# Altium integrated library TI Power Management Linear Regulator Single Channel LDO (0-350mA).IntLib: 1648 symbols (part 37 of 66)
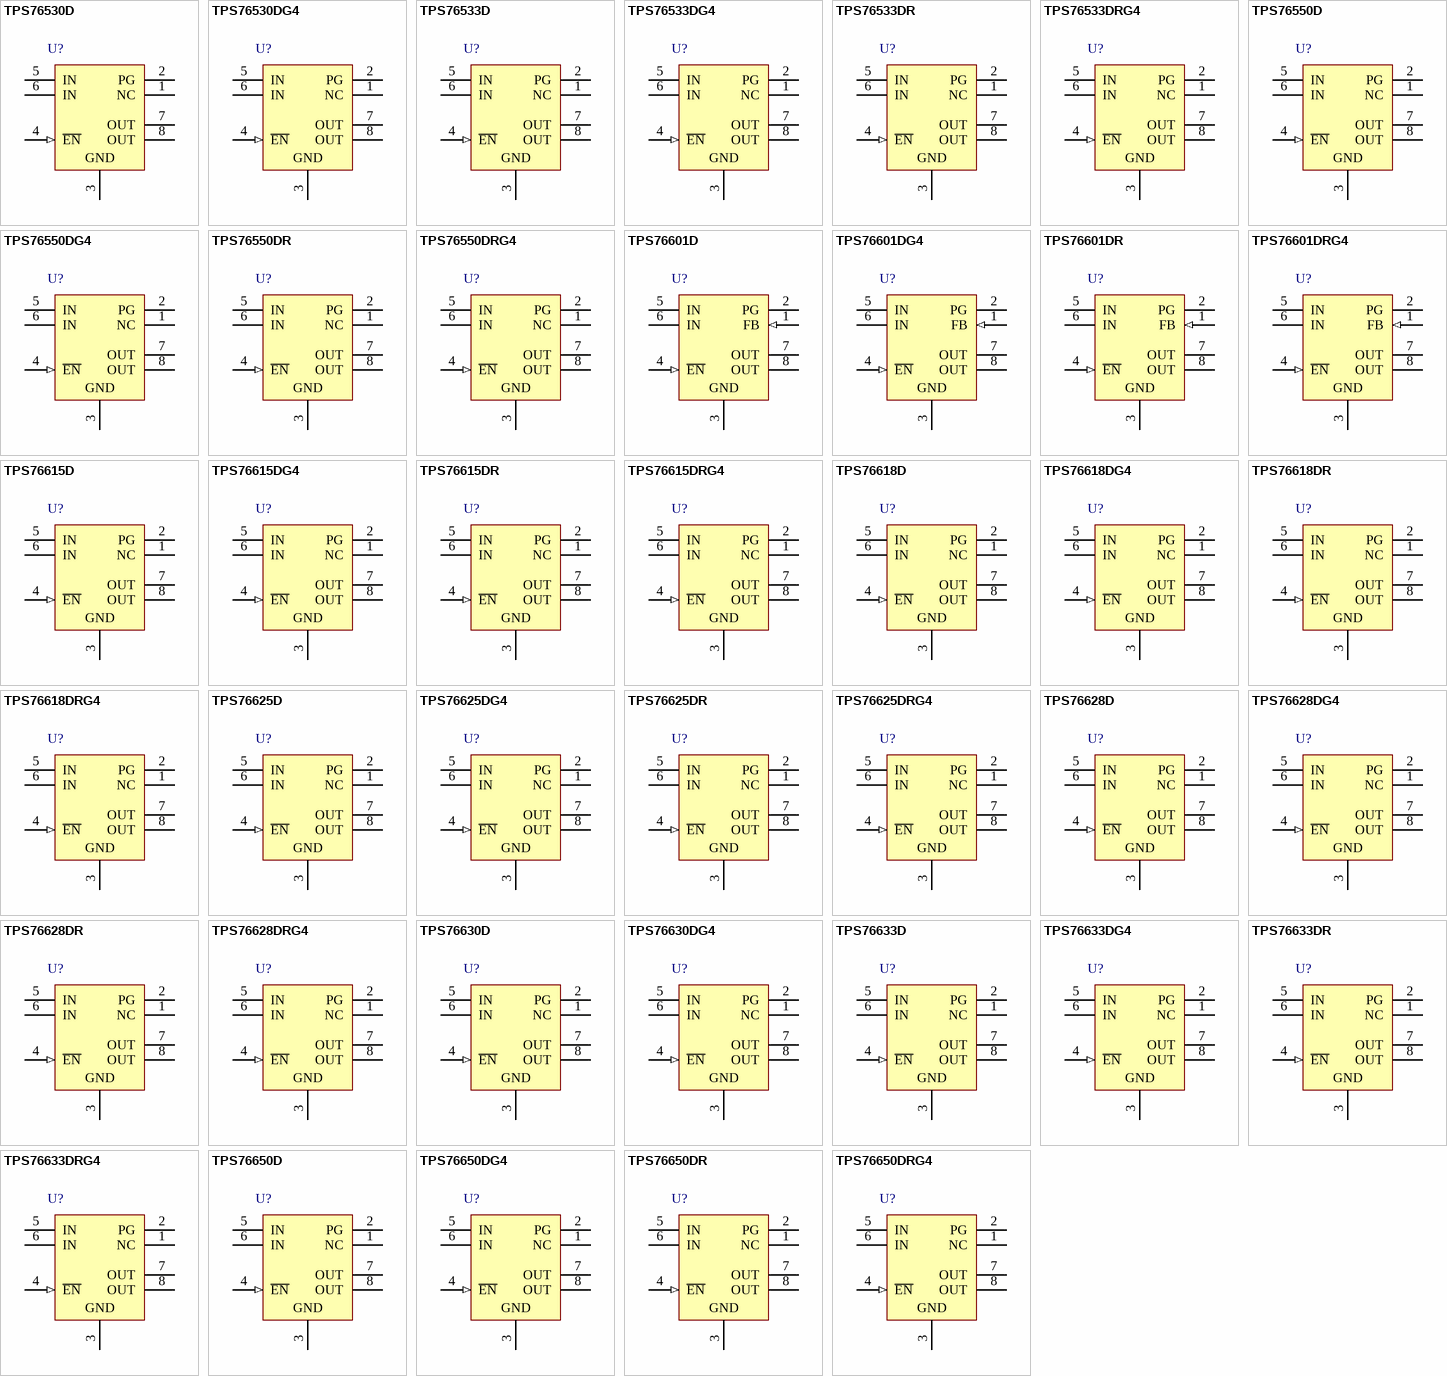
[diagram p78: symbols TPS76530D to TPS76650DRG4]

## TPS76615D
designator U?
Single Output LDO, 100 mA, Fixed 1.5 V Output, 2.7 to 10 V Input, with Low IQ, 8-pin SOIC (D), -40 to 125 degC, Green (RoHS & no Sb/Br); Manufacturer: Texas Instruments; PartNumber: TPS76615D; Fixed Output Options(V): 1.5; Iout(Max)(A): 0.25; Iq(Typ)(mA): 0.03; Power Good: TRUE; Rating: Catalog; SubFamily: Single Channel LDO; Vdo(Typ)(mV): 140; Vin(Max)(V): 10; Vin(Min)(V): 2.7; DatasheetVersion: SLVS237C; PackageVersion: 4040047-3/M; PackageReference: D8; PackageDescription: 8-Pin Plastic Small Outline, Body 4.9 x 3.9 mm, Pitch 1.27 mm; Supplier 1: Digi-Key; Supplier Part Number 1: 296-2723-5-ND; Supplier 2: Mouser; Supplier Part Number 2: 595-TPS76615D; Eco-Plan: Green (RoHS & no Sb/Br); Vout Adj(Max)(V): 1.5; Vout Adj(Min)(V): 1.5; Mounting Technology: Surface Mount; Code_JEDEC: MS-012; ComponentLink1Description: Manufacturer URL; ComponentLink1URL: http://www.ti.com/; ComponentLink2Description: Datasheet; ComponentLink2URL: http://www.ti.com/general/docs/lit/getliterature.tsp?genericPartNumber=TPS76615&fileType=pdf; ComponentLink3Description: Package Specification; ComponentLink3URL: http://www.ti.com/litv/pdf/msoi002j
footprint TI-D8_N (SOIC, 8-Leads, Body 4.9x3.9mm, Pitch 1.27mm, IPC Medium Density)
footprint TI-D8_L (SOIC, 8-Leads, Body 4.9x3.9mm, Pitch 1.27mm, IPC High Density)
footprint TI-D8_M (SOIC, 8-Leads, Body 4.9x3.9mm, Pitch 1.27mm, IPC Low Density)
pins: 1 NC "No connect", 2 PG (hiz) "PG output", 3 GND (power) "Regulator ground", 4 ~{EN} (in) "Enable input", 5 IN (power) "Input voltage", 6 IN (power) "Input voltage", 7 OUT (power) "Regulated output voltage", 8 OUT (power) "Regulated output voltage"

## TPS76615DG4
designator U?
Single Output LDO, 100 mA, Fixed 1.5 V Output, 2.7 to 10 V Input, with Low IQ, 8-pin SOIC (D), -40 to 125 degC, Green (RoHS & no Sb/Br); Manufacturer: Texas Instruments; PartNumber: TPS76615DG4; Fixed Output Options(V): 1.5; Iout(Max)(A): 0.25; Iq(Typ)(mA): 0.03; Power Good: TRUE; Rating: Catalog; SubFamily: Single Channel LDO; Vdo(Typ)(mV): 140; Vin(Max)(V): 10; Vin(Min)(V): 2.7; DatasheetVersion: SLVS237C; PackageVersion: 4040047-3/M; PackageReference: D8; PackageDescription: 8-Pin Plastic Small Outline, Body 4.9 x 3.9 mm, Pitch 1.27 mm; Supplier 1: Digi-Key; Supplier Part Number 1: TPS76615DG4-ND; Supplier 2: Mouser; Supplier Part Number 2: 595-TPS76615DG4; Eco-Plan: Green (RoHS & no Sb/Br); Vout Adj(Max)(V): 1.5; Vout Adj(Min)(V): 1.5; Mounting Technology: Surface Mount; Code_JEDEC: MS-012; ComponentLink1Description: Manufacturer URL; ComponentLink1URL: http://www.ti.com/; ComponentLink2Description: Datasheet; ComponentLink2URL: http://www.ti.com/general/docs/lit/getliterature.tsp?genericPartNumber=TPS76615&fileType=pdf; ComponentLink3Description: Package Specification; ComponentLink3URL: http://www.ti.com/litv/pdf/msoi002j
footprint TI-D8_N (SOIC, 8-Leads, Body 4.9x3.9mm, Pitch 1.27mm, IPC Medium Density)
footprint TI-D8_L (SOIC, 8-Leads, Body 4.9x3.9mm, Pitch 1.27mm, IPC High Density)
footprint TI-D8_M (SOIC, 8-Leads, Body 4.9x3.9mm, Pitch 1.27mm, IPC Low Density)
pins: 1 NC "No connect", 2 PG (hiz) "PG output", 3 GND (power) "Regulator ground", 4 ~{EN} (in) "Enable input", 5 IN (power) "Input voltage", 6 IN (power) "Input voltage", 7 OUT (power) "Regulated output voltage", 8 OUT (power) "Regulated output voltage"

## TPS76615DR
designator U?
Single Output LDO, 100 mA, Fixed 1.5 V Output, 2.7 to 10 V Input, with Low IQ, 8-pin SOIC (D), -40 to 125 degC, Green (RoHS & no Sb/Br); Manufacturer: Texas Instruments; PartNumber: TPS76615DR; Fixed Output Options(V): 1.5; Iout(Max)(A): 0.25; Iq(Typ)(mA): 0.03; Power Good: TRUE; Rating: Catalog; SubFamily: Single Channel LDO; Vdo(Typ)(mV): 140; Vin(Max)(V): 10; Vin(Min)(V): 2.7; DatasheetVersion: SLVS237C; PackageVersion: 4040047-3/M; PackageReference: D8; PackageDescription: 8-Pin Plastic Small Outline, Body 4.9 x 3.9 mm, Pitch 1.27 mm; Supplier 1: Digi-Key; Supplier Part Number 1: 296-2723-2-ND; Supplier 2: Digi-Key; Supplier Part Number 2: 296-2723-1-ND; Supplier 3: Digi-Key; Supplier Part Number 3: 296-2723-6-ND; Supplier 4: Mouser; Supplier Part Number 4: 595-TPS76615DR; Eco-Plan: Green (RoHS & no Sb/Br); Vout Adj(Max)(V): 1.5; Vout Adj(Min)(V): 1.5; Mounting Technology: Surface Mount; Code_JEDEC: MS-012; ComponentLink1Description: Manufacturer URL; ComponentLink1URL: http://www.ti.com/; ComponentLink2Description: Datasheet; ComponentLink2URL: http://www.ti.com/general/docs/lit/getliterature.tsp?genericPartNumber=TPS76615&fileType=pdf; ComponentLink3Description: Package Specification; ComponentLink3URL: http://www.ti.com/litv/pdf/msoi002j
footprint TI-D8_N (SOIC, 8-Leads, Body 4.9x3.9mm, Pitch 1.27mm, IPC Medium Density)
footprint TI-D8_L (SOIC, 8-Leads, Body 4.9x3.9mm, Pitch 1.27mm, IPC High Density)
footprint TI-D8_M (SOIC, 8-Leads, Body 4.9x3.9mm, Pitch 1.27mm, IPC Low Density)
pins: 1 NC "No connect", 2 PG (hiz) "PG output", 3 GND (power) "Regulator ground", 4 ~{EN} (in) "Enable input", 5 IN (power) "Input voltage", 6 IN (power) "Input voltage", 7 OUT (power) "Regulated output voltage", 8 OUT (power) "Regulated output voltage"

## TPS76615DRG4
designator U?
Single Output LDO, 100 mA, Fixed 1.5 V Output, 2.7 to 10 V Input, with Low IQ, 8-pin SOIC (D), -40 to 125 degC, Green (RoHS & no Sb/Br); Manufacturer: Texas Instruments; PartNumber: TPS76615DRG4; Fixed Output Options(V): 1.5; Iout(Max)(A): 0.25; Iq(Typ)(mA): 0.03; Power Good: TRUE; Rating: Catalog; SubFamily: Single Channel LDO; Vdo(Typ)(mV): 140; Vin(Max)(V): 10; Vin(Min)(V): 2.7; DatasheetVersion: SLVS237C; PackageVersion: 4040047-3/M; PackageReference: D8; PackageDescription: 8-Pin Plastic Small Outline, Body 4.9 x 3.9 mm, Pitch 1.27 mm; Supplier 1: Digi-Key; Supplier Part Number 1: TPS76615DRG4-ND; Supplier 2: Newark; Supplier Part Number 2: 33K7744; Supplier 3: Mouser; Supplier Part Number 3: 595-TPS76615DRG4; Eco-Plan: Green (RoHS & no Sb/Br); Vout Adj(Max)(V): 1.5; Vout Adj(Min)(V): 1.5; Mounting Technology: Surface Mount; Code_JEDEC: MS-012; ComponentLink1Description: Manufacturer URL; ComponentLink1URL: http://www.ti.com/; ComponentLink2Description: Datasheet; ComponentLink2URL: http://www.ti.com/general/docs/lit/getliterature.tsp?genericPartNumber=TPS76615&fileType=pdf; ComponentLink3Description: Package Specification; ComponentLink3URL: http://www.ti.com/litv/pdf/msoi002j
footprint TI-D8_N (SOIC, 8-Leads, Body 4.9x3.9mm, Pitch 1.27mm, IPC Medium Density)
footprint TI-D8_L (SOIC, 8-Leads, Body 4.9x3.9mm, Pitch 1.27mm, IPC High Density)
footprint TI-D8_M (SOIC, 8-Leads, Body 4.9x3.9mm, Pitch 1.27mm, IPC Low Density)
pins: 1 NC "No connect", 2 PG (hiz) "PG output", 3 GND (power) "Regulator ground", 4 ~{EN} (in) "Enable input", 5 IN (power) "Input voltage", 6 IN (power) "Input voltage", 7 OUT (power) "Regulated output voltage", 8 OUT (power) "Regulated output voltage"

## TPS76618D
designator U?
Single Output LDO, 100 mA, Fixed 1.8 V Output, 2.7 to 10 V Input, with Low IQ, 8-pin SOIC (D), -40 to 125 degC, Green (RoHS & no Sb/Br); Manufacturer: Texas Instruments; PartNumber: TPS76618D; Fixed Output Options(V): 1.8; Iout(Max)(A): 0.25; Iq(Typ)(mA): 0.03; Power Good: TRUE; Rating: Catalog; SubFamily: Single Channel LDO; Vdo(Typ)(mV): 140; Vin(Max)(V): 10; Vin(Min)(V): 2.7; DatasheetVersion: SLVS237C; PackageVersion: 4040047-3/M; PackageReference: D8; PackageDescription: 8-Pin Plastic Small Outline, Body 4.9 x 3.9 mm, Pitch 1.27 mm; Supplier 1: Digi-Key; Supplier Part Number 1: 296-2724-5-ND; Supplier 2: Newark; Supplier Part Number 2: 19C9085; Supplier 3: Mouser; Supplier Part Number 3: 595-TPS76618D; Eco-Plan: Green (RoHS & no Sb/Br); Vout Adj(Max)(V): 1.8; Vout Adj(Min)(V): 1.8; Mounting Technology: Surface Mount; Code_JEDEC: MS-012; ComponentLink1Description: Manufacturer URL; ComponentLink1URL: http://www.ti.com/; ComponentLink2Description: Datasheet; ComponentLink2URL: http://www.ti.com/general/docs/lit/getliterature.tsp?genericPartNumber=TPS76618&fileType=pdf; ComponentLink3Description: Package Specification; ComponentLink3URL: http://www.ti.com/litv/pdf/msoi002j
footprint TI-D8_N (SOIC, 8-Leads, Body 4.9x3.9mm, Pitch 1.27mm, IPC Medium Density)
footprint TI-D8_L (SOIC, 8-Leads, Body 4.9x3.9mm, Pitch 1.27mm, IPC High Density)
footprint TI-D8_M (SOIC, 8-Leads, Body 4.9x3.9mm, Pitch 1.27mm, IPC Low Density)
pins: 1 NC "No connect", 2 PG (hiz) "PG output", 3 GND (power) "Regulator ground", 4 ~{EN} (in) "Enable input", 5 IN (power) "Input voltage", 6 IN (power) "Input voltage", 7 OUT (power) "Regulated output voltage", 8 OUT (power) "Regulated output voltage"

## TPS76618DG4
designator U?
Single Output LDO, 100 mA, Fixed 1.8 V Output, 2.7 to 10 V Input, with Low IQ, 8-pin SOIC (D), -40 to 125 degC, Green (RoHS & no Sb/Br); Manufacturer: Texas Instruments; PartNumber: TPS76618DG4; Fixed Output Options(V): 1.8; Iout(Max)(A): 0.25; Iq(Typ)(mA): 0.03; Power Good: TRUE; Rating: Catalog; SubFamily: Single Channel LDO; Vdo(Typ)(mV): 140; Vin(Max)(V): 10; Vin(Min)(V): 2.7; DatasheetVersion: SLVS237C; PackageVersion: 4040047-3/M; PackageReference: D8; PackageDescription: 8-Pin Plastic Small Outline, Body 4.9 x 3.9 mm, Pitch 1.27 mm; Supplier 1: Digi-Key; Supplier Part Number 1: TPS76618DG4-ND; Supplier 2: Mouser; Supplier Part Number 2: 595-TPS76618DG4; Eco-Plan: Green (RoHS & no Sb/Br); Vout Adj(Max)(V): 1.8; Vout Adj(Min)(V): 1.8; Mounting Technology: Surface Mount; Code_JEDEC: MS-012; ComponentLink1Description: Manufacturer URL; ComponentLink1URL: http://www.ti.com/; ComponentLink2Description: Datasheet; ComponentLink2URL: http://www.ti.com/general/docs/lit/getliterature.tsp?genericPartNumber=TPS76618&fileType=pdf; ComponentLink3Description: Package Specification; ComponentLink3URL: http://www.ti.com/litv/pdf/msoi002j
footprint TI-D8_N (SOIC, 8-Leads, Body 4.9x3.9mm, Pitch 1.27mm, IPC Medium Density)
footprint TI-D8_L (SOIC, 8-Leads, Body 4.9x3.9mm, Pitch 1.27mm, IPC High Density)
footprint TI-D8_M (SOIC, 8-Leads, Body 4.9x3.9mm, Pitch 1.27mm, IPC Low Density)
pins: 1 NC "No connect", 2 PG (hiz) "PG output", 3 GND (power) "Regulator ground", 4 ~{EN} (in) "Enable input", 5 IN (power) "Input voltage", 6 IN (power) "Input voltage", 7 OUT (power) "Regulated output voltage", 8 OUT (power) "Regulated output voltage"

## TPS76618DR
designator U?
Single Output LDO, 100 mA, Fixed 1.8 V Output, 2.7 to 10 V Input, with Low IQ, 8-pin SOIC (D), -40 to 125 degC, Green (RoHS & no Sb/Br); Manufacturer: Texas Instruments; PartNumber: TPS76618DR; Fixed Output Options(V): 1.8; Iout(Max)(A): 0.25; Iq(Typ)(mA): 0.03; Power Good: TRUE; Rating: Catalog; SubFamily: Single Channel LDO; Vdo(Typ)(mV): 140; Vin(Max)(V): 10; Vin(Min)(V): 2.7; DatasheetVersion: SLVS237C; PackageVersion: 4040047-3/M; PackageReference: D8; PackageDescription: 8-Pin Plastic Small Outline, Body 4.9 x 3.9 mm, Pitch 1.27 mm; Supplier 1: Digi-Key; Supplier Part Number 1: TPS76618DR-ND; Supplier 2: Mouser; Supplier Part Number 2: 595-TPS76618DR; Eco-Plan: Green (RoHS & no Sb/Br); Vout Adj(Max)(V): 1.8; Vout Adj(Min)(V): 1.8; Mounting Technology: Surface Mount; Code_JEDEC: MS-012; ComponentLink1Description: Manufacturer URL; ComponentLink1URL: http://www.ti.com/; ComponentLink2Description: Datasheet; ComponentLink2URL: http://www.ti.com/general/docs/lit/getliterature.tsp?genericPartNumber=TPS76618&fileType=pdf; ComponentLink3Description: Package Specification; ComponentLink3URL: http://www.ti.com/litv/pdf/msoi002j
footprint TI-D8_N (SOIC, 8-Leads, Body 4.9x3.9mm, Pitch 1.27mm, IPC Medium Density)
footprint TI-D8_L (SOIC, 8-Leads, Body 4.9x3.9mm, Pitch 1.27mm, IPC High Density)
footprint TI-D8_M (SOIC, 8-Leads, Body 4.9x3.9mm, Pitch 1.27mm, IPC Low Density)
pins: 1 NC "No connect", 2 PG (hiz) "PG output", 3 GND (power) "Regulator ground", 4 ~{EN} (in) "Enable input", 5 IN (power) "Input voltage", 6 IN (power) "Input voltage", 7 OUT (power) "Regulated output voltage", 8 OUT (power) "Regulated output voltage"

## TPS76618DRG4
designator U?
Single Output LDO, 100 mA, Fixed 1.8 V Output, 2.7 to 10 V Input, with Low IQ, 8-pin SOIC (D), -40 to 125 degC, Green (RoHS & no Sb/Br); Manufacturer: Texas Instruments; PartNumber: TPS76618DRG4; Fixed Output Options(V): 1.8; Iout(Max)(A): 0.25; Iq(Typ)(mA): 0.03; Power Good: TRUE; Rating: Catalog; SubFamily: Single Channel LDO; Vdo(Typ)(mV): 140; Vin(Max)(V): 10; Vin(Min)(V): 2.7; DatasheetVersion: SLVS237C; PackageVersion: 4040047-3/M; PackageReference: D8; PackageDescription: 8-Pin Plastic Small Outline, Body 4.9 x 3.9 mm, Pitch 1.27 mm; Supplier 1: Digi-Key; Supplier Part Number 1: TPS76618DRG4-ND; Supplier 2: Mouser; Supplier Part Number 2: 595-TPS76618DRG4; Eco-Plan: Green (RoHS & no Sb/Br); Vout Adj(Max)(V): 1.8; Vout Adj(Min)(V): 1.8; Mounting Technology: Surface Mount; Code_JEDEC: MS-012; ComponentLink1Description: Manufacturer URL; ComponentLink1URL: http://www.ti.com/; ComponentLink2Description: Datasheet; ComponentLink2URL: http://www.ti.com/general/docs/lit/getliterature.tsp?genericPartNumber=TPS76618&fileType=pdf; ComponentLink3Description: Package Specification; ComponentLink3URL: http://www.ti.com/litv/pdf/msoi002j
footprint TI-D8_N (SOIC, 8-Leads, Body 4.9x3.9mm, Pitch 1.27mm, IPC Medium Density)
footprint TI-D8_L (SOIC, 8-Leads, Body 4.9x3.9mm, Pitch 1.27mm, IPC High Density)
footprint TI-D8_M (SOIC, 8-Leads, Body 4.9x3.9mm, Pitch 1.27mm, IPC Low Density)
pins: 1 NC "No connect", 2 PG (hiz) "PG output", 3 GND (power) "Regulator ground", 4 ~{EN} (in) "Enable input", 5 IN (power) "Input voltage", 6 IN (power) "Input voltage", 7 OUT (power) "Regulated output voltage", 8 OUT (power) "Regulated output voltage"

## TPS76625D
designator U?
Single Output LDO, 100 mA, Fixed 2.5 V Output, 2.7 to 10 V Input, with Low IQ, 8-pin SOIC (D), -40 to 125 degC, Green (RoHS & no Sb/Br); Manufacturer: Texas Instruments; PartNumber: TPS76625D; Fixed Output Options(V): 2.5; Iout(Max)(A): 0.25; Iq(Typ)(mA): 0.03; Power Good: TRUE; Rating: Catalog; SubFamily: Single Channel LDO; Vdo(Typ)(mV): 140; Vin(Max)(V): 10; Vin(Min)(V): 2.7; DatasheetVersion: SLVS237C; PackageVersion: 4040047-3/M; PackageReference: D8; PackageDescription: 8-Pin Plastic Small Outline, Body 4.9 x 3.9 mm, Pitch 1.27 mm; Supplier 1: Digi-Key; Supplier Part Number 1: 296-2725-5-ND; Supplier 2: Newark; Supplier Part Number 2: 19C9086; Supplier 3: Mouser; Supplier Part Number 3: 595-TPS76625D; Eco-Plan: Green (RoHS & no Sb/Br); Vout Adj(Max)(V): 2.5; Vout Adj(Min)(V): 2.5; Mounting Technology: Surface Mount; Code_JEDEC: MS-012; ComponentLink1Description: Manufacturer URL; ComponentLink1URL: http://www.ti.com/; ComponentLink2Description: Datasheet; ComponentLink2URL: http://www.ti.com/general/docs/lit/getliterature.tsp?genericPartNumber=TPS76625&fileType=pdf; ComponentLink3Description: Package Specification; ComponentLink3URL: http://www.ti.com/litv/pdf/msoi002j
footprint TI-D8_N (SOIC, 8-Leads, Body 4.9x3.9mm, Pitch 1.27mm, IPC Medium Density)
footprint TI-D8_L (SOIC, 8-Leads, Body 4.9x3.9mm, Pitch 1.27mm, IPC High Density)
footprint TI-D8_M (SOIC, 8-Leads, Body 4.9x3.9mm, Pitch 1.27mm, IPC Low Density)
pins: 1 NC "No connect", 2 PG (hiz) "PG output", 3 GND (power) "Regulator ground", 4 ~{EN} (in) "Enable input", 5 IN (power) "Input voltage", 6 IN (power) "Input voltage", 7 OUT (power) "Regulated output voltage", 8 OUT (power) "Regulated output voltage"

## TPS76625DG4
designator U?
Single Output LDO, 100 mA, Fixed 2.5 V Output, 2.7 to 10 V Input, with Low IQ, 8-pin SOIC (D), -40 to 125 degC, Green (RoHS & no Sb/Br); Manufacturer: Texas Instruments; PartNumber: TPS76625DG4; Fixed Output Options(V): 2.5; Iout(Max)(A): 0.25; Iq(Typ)(mA): 0.03; Power Good: TRUE; Rating: Catalog; SubFamily: Single Channel LDO; Vdo(Typ)(mV): 140; Vin(Max)(V): 10; Vin(Min)(V): 2.7; DatasheetVersion: SLVS237C; PackageVersion: 4040047-3/M; PackageReference: D8; PackageDescription: 8-Pin Plastic Small Outline, Body 4.9 x 3.9 mm, Pitch 1.27 mm; Supplier 1: Digi-Key; Supplier Part Number 1: TPS76625DG4-ND; Supplier 2: Mouser; Supplier Part Number 2: 595-TPS76625DG4; Eco-Plan: Green (RoHS & no Sb/Br); Vout Adj(Max)(V): 2.5; Vout Adj(Min)(V): 2.5; Mounting Technology: Surface Mount; Code_JEDEC: MS-012; ComponentLink1Description: Manufacturer URL; ComponentLink1URL: http://www.ti.com/; ComponentLink2Description: Datasheet; ComponentLink2URL: http://www.ti.com/general/docs/lit/getliterature.tsp?genericPartNumber=TPS76625&fileType=pdf; ComponentLink3Description: Package Specification; ComponentLink3URL: http://www.ti.com/litv/pdf/msoi002j
footprint TI-D8_N (SOIC, 8-Leads, Body 4.9x3.9mm, Pitch 1.27mm, IPC Medium Density)
footprint TI-D8_L (SOIC, 8-Leads, Body 4.9x3.9mm, Pitch 1.27mm, IPC High Density)
footprint TI-D8_M (SOIC, 8-Leads, Body 4.9x3.9mm, Pitch 1.27mm, IPC Low Density)
pins: 1 NC "No connect", 2 PG (hiz) "PG output", 3 GND (power) "Regulator ground", 4 ~{EN} (in) "Enable input", 5 IN (power) "Input voltage", 6 IN (power) "Input voltage", 7 OUT (power) "Regulated output voltage", 8 OUT (power) "Regulated output voltage"

## TPS76625DR
designator U?
Single Output LDO, 100 mA, Fixed 2.5 V Output, 2.7 to 10 V Input, with Low IQ, 8-pin SOIC (D), -40 to 125 degC, Green (RoHS & no Sb/Br); Manufacturer: Texas Instruments; PartNumber: TPS76625DR; Fixed Output Options(V): 2.5; Iout(Max)(A): 0.25; Iq(Typ)(mA): 0.03; Power Good: TRUE; Rating: Catalog; SubFamily: Single Channel LDO; Vdo(Typ)(mV): 140; Vin(Max)(V): 10; Vin(Min)(V): 2.7; DatasheetVersion: SLVS237C; PackageVersion: 4040047-3/M; PackageReference: D8; PackageDescription: 8-Pin Plastic Small Outline, Body 4.9 x 3.9 mm, Pitch 1.27 mm; Supplier 1: Digi-Key; Supplier Part Number 1: TPS76625DR-ND; Supplier 2: Mouser; Supplier Part Number 2: 595-TPS76625DR; Eco-Plan: Green (RoHS & no Sb/Br); Vout Adj(Max)(V): 2.5; Vout Adj(Min)(V): 2.5; Mounting Technology: Surface Mount; Code_JEDEC: MS-012; ComponentLink1Description: Manufacturer URL; ComponentLink1URL: http://www.ti.com/; ComponentLink2Description: Datasheet; ComponentLink2URL: http://www.ti.com/general/docs/lit/getliterature.tsp?genericPartNumber=TPS76625&fileType=pdf; ComponentLink3Description: Package Specification; ComponentLink3URL: http://www.ti.com/litv/pdf/msoi002j
footprint TI-D8_N (SOIC, 8-Leads, Body 4.9x3.9mm, Pitch 1.27mm, IPC Medium Density)
footprint TI-D8_L (SOIC, 8-Leads, Body 4.9x3.9mm, Pitch 1.27mm, IPC High Density)
footprint TI-D8_M (SOIC, 8-Leads, Body 4.9x3.9mm, Pitch 1.27mm, IPC Low Density)
pins: 1 NC "No connect", 2 PG (hiz) "PG output", 3 GND (power) "Regulator ground", 4 ~{EN} (in) "Enable input", 5 IN (power) "Input voltage", 6 IN (power) "Input voltage", 7 OUT (power) "Regulated output voltage", 8 OUT (power) "Regulated output voltage"

## TPS76625DRG4
designator U?
Single Output LDO, 100 mA, Fixed 2.5 V Output, 2.7 to 10 V Input, with Low IQ, 8-pin SOIC (D), -40 to 125 degC, Green (RoHS & no Sb/Br); Manufacturer: Texas Instruments; PartNumber: TPS76625DRG4; Fixed Output Options(V): 2.5; Iout(Max)(A): 0.25; Iq(Typ)(mA): 0.03; Power Good: TRUE; Rating: Catalog; SubFamily: Single Channel LDO; Vdo(Typ)(mV): 140; Vin(Max)(V): 10; Vin(Min)(V): 2.7; DatasheetVersion: SLVS237C; PackageVersion: 4040047-3/M; PackageReference: D8; PackageDescription: 8-Pin Plastic Small Outline, Body 4.9 x 3.9 mm, Pitch 1.27 mm; Supplier 1: Digi-Key; Supplier Part Number 1: TPS76625DRG4-ND; Supplier 2: Mouser; Supplier Part Number 2: 595-TPS76625DRG4; Eco-Plan: Green (RoHS & no Sb/Br); Vout Adj(Max)(V): 2.5; Vout Adj(Min)(V): 2.5; Mounting Technology: Surface Mount; Code_JEDEC: MS-012; ComponentLink1Description: Manufacturer URL; ComponentLink1URL: http://www.ti.com/; ComponentLink2Description: Datasheet; ComponentLink2URL: http://www.ti.com/general/docs/lit/getliterature.tsp?genericPartNumber=TPS76625&fileType=pdf; ComponentLink3Description: Package Specification; ComponentLink3URL: http://www.ti.com/litv/pdf/msoi002j
footprint TI-D8_N (SOIC, 8-Leads, Body 4.9x3.9mm, Pitch 1.27mm, IPC Medium Density)
footprint TI-D8_L (SOIC, 8-Leads, Body 4.9x3.9mm, Pitch 1.27mm, IPC High Density)
footprint TI-D8_M (SOIC, 8-Leads, Body 4.9x3.9mm, Pitch 1.27mm, IPC Low Density)
pins: 1 NC "No connect", 2 PG (hiz) "PG output", 3 GND (power) "Regulator ground", 4 ~{EN} (in) "Enable input", 5 IN (power) "Input voltage", 6 IN (power) "Input voltage", 7 OUT (power) "Regulated output voltage", 8 OUT (power) "Regulated output voltage"

## TPS76628D
designator U?
Single Output LDO, 250 mA, Fixed 2.8 V Output, 2.7 to 10 V Input, with Low IQ, 8-pin SOIC (D), -40 to 125 degC, Green (RoHS & no Sb/Br); Manufacturer: Texas Instruments; PartNumber: TPS76628D; Fixed Output Options(V): 2.8; Iout(Max)(A): 0.25; Iq(Typ)(mA): 0.03; Power Good: TRUE; SubFamily: Single Channel LDO; Vdo(Typ)(mV): 310; Vin(Max)(V): 10; Vin(Min)(V): 2.7; DatasheetVersion: SLVS237C; PackageVersion: 4040047-3/M; PackageReference: D8; PackageDescription: 8-Pin Plastic Small Outline, Body 4.9 x 3.9 mm, Pitch 1.27 mm; Supplier 1: Digi-Key; Supplier Part Number 1: 296-2727-5-ND; Supplier 2: Mouser; Supplier Part Number 2: 595-TPS76628D; Eco-Plan: Green (RoHS & no Sb/Br); Vout Adj(Max)(V): 2.8; Vout Adj(Min)(V): 2.8; Mounting Technology: Surface Mount; Code_JEDEC: MS-012; ComponentLink1Description: Manufacturer URL; ComponentLink1URL: http://www.ti.com/; ComponentLink2Description: Datasheet; ComponentLink2URL: http://www.ti.com/general/docs/lit/getliterature.tsp?genericPartNumber=TPS76628&fileType=pdf; ComponentLink3Description: Package Specification; ComponentLink3URL: http://www.ti.com/litv/pdf/msoi002j
footprint TI-D8_N (SOIC, 8-Leads, Body 4.9x3.9mm, Pitch 1.27mm, IPC Medium Density)
footprint TI-D8_L (SOIC, 8-Leads, Body 4.9x3.9mm, Pitch 1.27mm, IPC High Density)
footprint TI-D8_M (SOIC, 8-Leads, Body 4.9x3.9mm, Pitch 1.27mm, IPC Low Density)
pins: 1 NC "No connect", 2 PG (hiz) "PG output", 3 GND (power) "Regulator ground", 4 ~{EN} (in) "Enable input", 5 IN (power) "Input voltage", 6 IN (power) "Input voltage", 7 OUT (power) "Regulated output voltage", 8 OUT (power) "Regulated output voltage"

## TPS76628DG4
designator U?
Single Output LDO, 250 mA, Fixed 2.8 V Output, 2.7 to 10 V Input, with Low IQ, 8-pin SOIC (D), -40 to 125 degC, Green (RoHS & no Sb/Br); Manufacturer: Texas Instruments; PartNumber: TPS76628DG4; Fixed Output Options(V): 2.8; Iout(Max)(A): 0.25; Iq(Typ)(mA): 0.03; Power Good: TRUE; SubFamily: Single Channel LDO; Vdo(Typ)(mV): 310; Vin(Max)(V): 10; Vin(Min)(V): 2.7; DatasheetVersion: SLVS237C; PackageVersion: 4040047-3/M; PackageReference: D8; PackageDescription: 8-Pin Plastic Small Outline, Body 4.9 x 3.9 mm, Pitch 1.27 mm; Supplier 1: Digi-Key; Supplier Part Number 1: TPS76628DG4-ND; Supplier 2: Mouser; Supplier Part Number 2: 595-TPS76628DG4; Eco-Plan: Green (RoHS & no Sb/Br); Vout Adj(Max)(V): 2.8; Vout Adj(Min)(V): 2.8; Mounting Technology: Surface Mount; Code_JEDEC: MS-012; ComponentLink1Description: Manufacturer URL; ComponentLink1URL: http://www.ti.com/; ComponentLink2Description: Datasheet; ComponentLink2URL: http://www.ti.com/general/docs/lit/getliterature.tsp?genericPartNumber=TPS76628&fileType=pdf; ComponentLink3Description: Package Specification; ComponentLink3URL: http://www.ti.com/litv/pdf/msoi002j
footprint TI-D8_N (SOIC, 8-Leads, Body 4.9x3.9mm, Pitch 1.27mm, IPC Medium Density)
footprint TI-D8_L (SOIC, 8-Leads, Body 4.9x3.9mm, Pitch 1.27mm, IPC High Density)
footprint TI-D8_M (SOIC, 8-Leads, Body 4.9x3.9mm, Pitch 1.27mm, IPC Low Density)
pins: 1 NC "No connect", 2 PG (hiz) "PG output", 3 GND (power) "Regulator ground", 4 ~{EN} (in) "Enable input", 5 IN (power) "Input voltage", 6 IN (power) "Input voltage", 7 OUT (power) "Regulated output voltage", 8 OUT (power) "Regulated output voltage"

## TPS76628DR
designator U?
Single Output LDO, 250 mA, Fixed 2.8 V Output, 2.7 to 10 V Input, with Low IQ, 8-pin SOIC (D), -40 to 125 degC, Green (RoHS & no Sb/Br); Manufacturer: Texas Instruments; PartNumber: TPS76628DR; Fixed Output Options(V): 2.8; Iout(Max)(A): 0.25; Iq(Typ)(mA): 0.03; Power Good: TRUE; SubFamily: Single Channel LDO; Vdo(Typ)(mV): 310; Vin(Max)(V): 10; Vin(Min)(V): 2.7; DatasheetVersion: SLVS237C; PackageVersion: 4040047-3/M; PackageReference: D8; PackageDescription: 8-Pin Plastic Small Outline, Body 4.9 x 3.9 mm, Pitch 1.27 mm; Supplier 1: Digi-Key; Supplier Part Number 1: TPS76628DR-ND; Supplier 2: Newark; Supplier Part Number 2: 77C1058; Supplier 3: Mouser; Supplier Part Number 3: 595-TPS76628DR; Eco-Plan: Green (RoHS & no Sb/Br); Vout Adj(Max)(V): 2.8; Vout Adj(Min)(V): 2.8; Mounting Technology: Surface Mount; Code_JEDEC: MS-012; ComponentLink1Description: Manufacturer URL; ComponentLink1URL: http://www.ti.com/; ComponentLink2Description: Datasheet; ComponentLink2URL: http://www.ti.com/general/docs/lit/getliterature.tsp?genericPartNumber=TPS76628&fileType=pdf; ComponentLink3Description: Package Specification; ComponentLink3URL: http://www.ti.com/litv/pdf/msoi002j
footprint TI-D8_N (SOIC, 8-Leads, Body 4.9x3.9mm, Pitch 1.27mm, IPC Medium Density)
footprint TI-D8_L (SOIC, 8-Leads, Body 4.9x3.9mm, Pitch 1.27mm, IPC High Density)
footprint TI-D8_M (SOIC, 8-Leads, Body 4.9x3.9mm, Pitch 1.27mm, IPC Low Density)
pins: 1 NC "No connect", 2 PG (hiz) "PG output", 3 GND (power) "Regulator ground", 4 ~{EN} (in) "Enable input", 5 IN (power) "Input voltage", 6 IN (power) "Input voltage", 7 OUT (power) "Regulated output voltage", 8 OUT (power) "Regulated output voltage"

## TPS76628DRG4
designator U?
Single Output LDO, 250 mA, Fixed 2.8 V Output, 2.7 to 10 V Input, with Low IQ, 8-pin SOIC (D), -40 to 125 degC, Green (RoHS & no Sb/Br); Manufacturer: Texas Instruments; PartNumber: TPS76628DRG4; Fixed Output Options(V): 2.8; Iout(Max)(A): 0.25; Iq(Typ)(mA): 0.03; Power Good: TRUE; SubFamily: Single Channel LDO; Vdo(Typ)(mV): 310; Vin(Max)(V): 10; Vin(Min)(V): 2.7; DatasheetVersion: SLVS237C; PackageVersion: 4040047-3/M; PackageReference: D8; PackageDescription: 8-Pin Plastic Small Outline, Body 4.9 x 3.9 mm, Pitch 1.27 mm; Supplier 1: Digi-Key; Supplier Part Number 1: TPS76628DRG4-ND; Supplier 2: Mouser; Supplier Part Number 2: 595-TPS76628DRG4; Eco-Plan: Green (RoHS & no Sb/Br); Vout Adj(Max)(V): 2.8; Vout Adj(Min)(V): 2.8; Mounting Technology: Surface Mount; Code_JEDEC: MS-012; ComponentLink1Description: Manufacturer URL; ComponentLink1URL: http://www.ti.com/; ComponentLink2Description: Datasheet; ComponentLink2URL: http://www.ti.com/general/docs/lit/getliterature.tsp?genericPartNumber=TPS76628&fileType=pdf; ComponentLink3Description: Package Specification; ComponentLink3URL: http://www.ti.com/litv/pdf/msoi002j
footprint TI-D8_N (SOIC, 8-Leads, Body 4.9x3.9mm, Pitch 1.27mm, IPC Medium Density)
footprint TI-D8_L (SOIC, 8-Leads, Body 4.9x3.9mm, Pitch 1.27mm, IPC High Density)
footprint TI-D8_M (SOIC, 8-Leads, Body 4.9x3.9mm, Pitch 1.27mm, IPC Low Density)
pins: 1 NC "No connect", 2 PG (hiz) "PG output", 3 GND (power) "Regulator ground", 4 ~{EN} (in) "Enable input", 5 IN (power) "Input voltage", 6 IN (power) "Input voltage", 7 OUT (power) "Regulated output voltage", 8 OUT (power) "Regulated output voltage"

## TPS76630D
designator U?
Single Output LDO, 200 mA, Fixed 3 V Output, 2.7 to 10 V Input, with Low IQ, 8-pin SOIC (D), -40 to 125 degC, Green (RoHS & no Sb/Br); Manufacturer: Texas Instruments; PartNumber: TPS76630D; Fixed Output Options(V): 3; Iout(Max)(A): 0.25; Iq(Typ)(mA): 0.03; Power Good: TRUE; SubFamily: Single Channel LDO; Vdo(Typ)(mV): 270; Vin(Max)(V): 10; Vin(Min)(V): 2.7; DatasheetVersion: SLVS237C; PackageVersion: 4040047-3/M; PackageReference: D8; PackageDescription: 8-Pin Plastic Small Outline, Body 4.9 x 3.9 mm, Pitch 1.27 mm; Supplier 1: Digi-Key; Supplier Part Number 1: 296-2728-5-ND; Supplier 2: Mouser; Supplier Part Number 2: 595-TPS76630D; Eco-Plan: Green (RoHS & no Sb/Br); Vout Adj(Max)(V): 3; Vout Adj(Min)(V): 3; Mounting Technology: Surface Mount; Code_JEDEC: MS-012; ComponentLink1Description: Manufacturer URL; ComponentLink1URL: http://www.ti.com/; ComponentLink2Description: Datasheet; ComponentLink2URL: http://www.ti.com/general/docs/lit/getliterature.tsp?genericPartNumber=TPS76630&fileType=pdf; ComponentLink3Description: Package Specification; ComponentLink3URL: http://www.ti.com/litv/pdf/msoi002j
footprint TI-D8_N (SOIC, 8-Leads, Body 4.9x3.9mm, Pitch 1.27mm, IPC Medium Density)
footprint TI-D8_L (SOIC, 8-Leads, Body 4.9x3.9mm, Pitch 1.27mm, IPC High Density)
footprint TI-D8_M (SOIC, 8-Leads, Body 4.9x3.9mm, Pitch 1.27mm, IPC Low Density)
pins: 1 NC "No connect", 2 PG (hiz) "PG output", 3 GND (power) "Regulator ground", 4 ~{EN} (in) "Enable input", 5 IN (power) "Input voltage", 6 IN (power) "Input voltage", 7 OUT (power) "Regulated output voltage", 8 OUT (power) "Regulated output voltage"

## TPS76630DG4
designator U?
Single Output LDO, 200 mA, Fixed 3 V Output, 2.7 to 10 V Input, with Low IQ, 8-pin SOIC (D), -40 to 125 degC, Green (RoHS & no Sb/Br); Manufacturer: Texas Instruments; PartNumber: TPS76630DG4; Fixed Output Options(V): 3; Iout(Max)(A): 0.25; Iq(Typ)(mA): 0.03; Power Good: TRUE; SubFamily: Single Channel LDO; Vdo(Typ)(mV): 270; Vin(Max)(V): 10; Vin(Min)(V): 2.7; DatasheetVersion: SLVS237C; PackageVersion: 4040047-3/M; PackageReference: D8; PackageDescription: 8-Pin Plastic Small Outline, Body 4.9 x 3.9 mm, Pitch 1.27 mm; Supplier 1: Digi-Key; Supplier Part Number 1: TPS76630DG4-ND; Supplier 2: Mouser; Supplier Part Number 2: 595-TPS76630DG4; Eco-Plan: Green (RoHS & no Sb/Br); Vout Adj(Max)(V): 3; Vout Adj(Min)(V): 3; Mounting Technology: Surface Mount; Code_JEDEC: MS-012; ComponentLink1Description: Manufacturer URL; ComponentLink1URL: http://www.ti.com/; ComponentLink2Description: Datasheet; ComponentLink2URL: http://www.ti.com/general/docs/lit/getliterature.tsp?genericPartNumber=TPS76630&fileType=pdf; ComponentLink3Description: Package Specification; ComponentLink3URL: http://www.ti.com/litv/pdf/msoi002j
footprint TI-D8_N (SOIC, 8-Leads, Body 4.9x3.9mm, Pitch 1.27mm, IPC Medium Density)
footprint TI-D8_L (SOIC, 8-Leads, Body 4.9x3.9mm, Pitch 1.27mm, IPC High Density)
footprint TI-D8_M (SOIC, 8-Leads, Body 4.9x3.9mm, Pitch 1.27mm, IPC Low Density)
pins: 1 NC "No connect", 2 PG (hiz) "PG output", 3 GND (power) "Regulator ground", 4 ~{EN} (in) "Enable input", 5 IN (power) "Input voltage", 6 IN (power) "Input voltage", 7 OUT (power) "Regulated output voltage", 8 OUT (power) "Regulated output voltage"

## TPS76633D
designator U?
Single Output LDO, 250 mA, Fixed 3.3 V Output, 2.7 to 10 V Input, with Low IQ, 8-pin SOIC (D), -40 to 125 degC, Green (RoHS & no Sb/Br); Manufacturer: Texas Instruments; PartNumber: TPS76633D; Fixed Output Options(V): 3.3; Iout(Max)(A): 0.25; Iq(Typ)(mA): 0.03; Power Good: TRUE; SubFamily: Single Channel LDO; Vdo(Typ)(mV): 230; Vin(Max)(V): 10; Vin(Min)(V): 2.7; DatasheetVersion: SLVS237C; PackageVersion: 4040047-3/M; PackageReference: D8; PackageDescription: 8-Pin Plastic Small Outline, Body 4.9 x 3.9 mm, Pitch 1.27 mm; Supplier 1: Digi-Key; Supplier Part Number 1: 296-2729-5-ND; Supplier 2: Farnell; Supplier Part Number 2: 8461422; Supplier 3: Newark; Supplier Part Number 3: 77C1060; Supplier 4: Mouser; Supplier Part Number 4: 595-TPS76633D; Eco-Plan: Green (RoHS & no Sb/Br); Vout Adj(Max)(V): 3.3; Vout Adj(Min)(V): 3.3; Mounting Technology: Surface Mount; Code_JEDEC: MS-012; ComponentLink1Description: Manufacturer URL; ComponentLink1URL: http://www.ti.com/; ComponentLink2Description: Datasheet; ComponentLink2URL: http://www.ti.com/general/docs/lit/getliterature.tsp?genericPartNumber=TPS76633&fileType=pdf; ComponentLink3Description: Package Specification; ComponentLink3URL: http://www.ti.com/litv/pdf/msoi002j
footprint TI-D8_N (SOIC, 8-Leads, Body 4.9x3.9mm, Pitch 1.27mm, IPC Medium Density)
footprint TI-D8_L (SOIC, 8-Leads, Body 4.9x3.9mm, Pitch 1.27mm, IPC High Density)
footprint TI-D8_M (SOIC, 8-Leads, Body 4.9x3.9mm, Pitch 1.27mm, IPC Low Density)
pins: 1 NC "No connect", 2 PG (hiz) "PG output", 3 GND (power) "Regulator ground", 4 ~{EN} (in) "Enable input", 5 IN (power) "Input voltage", 6 IN (power) "Input voltage", 7 OUT (power) "Regulated output voltage", 8 OUT (power) "Regulated output voltage"

## TPS76633DG4
designator U?
Single Output LDO, 250 mA, Fixed 3.3 V Output, 2.7 to 10 V Input, with Low IQ, 8-pin SOIC (D), -40 to 125 degC, Green (RoHS & no Sb/Br); Manufacturer: Texas Instruments; PartNumber: TPS76633DG4; Fixed Output Options(V): 3.3; Iout(Max)(A): 0.25; Iq(Typ)(mA): 0.03; Power Good: TRUE; SubFamily: Single Channel LDO; Vdo(Typ)(mV): 230; Vin(Max)(V): 10; Vin(Min)(V): 2.7; DatasheetVersion: SLVS237C; PackageVersion: 4040047-3/M; PackageReference: D8; PackageDescription: 8-Pin Plastic Small Outline, Body 4.9 x 3.9 mm, Pitch 1.27 mm; Supplier 1: Digi-Key; Supplier Part Number 1: TPS76633DG4-ND; Supplier 2: Newark; Supplier Part Number 2: 80K3441; Supplier 3: Mouser; Supplier Part Number 3: 595-TPS76633DG4; Eco-Plan: Green (RoHS & no Sb/Br); Vout Adj(Max)(V): 3.3; Vout Adj(Min)(V): 3.3; Mounting Technology: Surface Mount; Code_JEDEC: MS-012; ComponentLink1Description: Manufacturer URL; ComponentLink1URL: http://www.ti.com/; ComponentLink2Description: Datasheet; ComponentLink2URL: http://www.ti.com/general/docs/lit/getliterature.tsp?genericPartNumber=TPS76633&fileType=pdf; ComponentLink3Description: Package Specification; ComponentLink3URL: http://www.ti.com/litv/pdf/msoi002j
footprint TI-D8_N (SOIC, 8-Leads, Body 4.9x3.9mm, Pitch 1.27mm, IPC Medium Density)
footprint TI-D8_L (SOIC, 8-Leads, Body 4.9x3.9mm, Pitch 1.27mm, IPC High Density)
footprint TI-D8_M (SOIC, 8-Leads, Body 4.9x3.9mm, Pitch 1.27mm, IPC Low Density)
pins: 1 NC "No connect", 2 PG (hiz) "PG output", 3 GND (power) "Regulator ground", 4 ~{EN} (in) "Enable input", 5 IN (power) "Input voltage", 6 IN (power) "Input voltage", 7 OUT (power) "Regulated output voltage", 8 OUT (power) "Regulated output voltage"

## TPS76633DR
designator U?
Single Output LDO, 250 mA, Fixed 3.3 V Output, 2.7 to 10 V Input, with Low IQ, 8-pin SOIC (D), -40 to 125 degC, Green (RoHS & no Sb/Br); Manufacturer: Texas Instruments; PartNumber: TPS76633DR; Fixed Output Options(V): 3.3; Iout(Max)(A): 0.25; Iq(Typ)(mA): 0.03; Power Good: TRUE; SubFamily: Single Channel LDO; Vdo(Typ)(mV): 230; Vin(Max)(V): 10; Vin(Min)(V): 2.7; DatasheetVersion: SLVS237C; PackageVersion: 4040047-3/M; PackageReference: D8; PackageDescription: 8-Pin Plastic Small Outline, Body 4.9 x 3.9 mm, Pitch 1.27 mm; Supplier 1: Digi-Key; Supplier Part Number 1: TPS76633DR-ND; Supplier 2: Newark; Supplier Part Number 2: 77C1061; Supplier 3: Mouser; Supplier Part Number 3: 595-TPS76633DR; Eco-Plan: Green (RoHS & no Sb/Br); Vout Adj(Max)(V): 3.3; Vout Adj(Min)(V): 3.3; Mounting Technology: Surface Mount; Code_JEDEC: MS-012; ComponentLink1Description: Manufacturer URL; ComponentLink1URL: http://www.ti.com/; ComponentLink2Description: Datasheet; ComponentLink2URL: http://www.ti.com/general/docs/lit/getliterature.tsp?genericPartNumber=TPS76633&fileType=pdf; ComponentLink3Description: Package Specification; ComponentLink3URL: http://www.ti.com/litv/pdf/msoi002j
footprint TI-D8_N (SOIC, 8-Leads, Body 4.9x3.9mm, Pitch 1.27mm, IPC Medium Density)
footprint TI-D8_L (SOIC, 8-Leads, Body 4.9x3.9mm, Pitch 1.27mm, IPC High Density)
footprint TI-D8_M (SOIC, 8-Leads, Body 4.9x3.9mm, Pitch 1.27mm, IPC Low Density)
pins: 1 NC "No connect", 2 PG (hiz) "PG output", 3 GND (power) "Regulator ground", 4 ~{EN} (in) "Enable input", 5 IN (power) "Input voltage", 6 IN (power) "Input voltage", 7 OUT (power) "Regulated output voltage", 8 OUT (power) "Regulated output voltage"

## TPS76633DRG4
designator U?
Single Output LDO, 250 mA, Fixed 3.3 V Output, 2.7 to 10 V Input, with Low IQ, 8-pin SOIC (D), -40 to 125 degC, Green (RoHS & no Sb/Br); Manufacturer: Texas Instruments; PartNumber: TPS76633DRG4; Fixed Output Options(V): 3.3; Iout(Max)(A): 0.25; Iq(Typ)(mA): 0.03; Power Good: TRUE; SubFamily: Single Channel LDO; Vdo(Typ)(mV): 230; Vin(Max)(V): 10; Vin(Min)(V): 2.7; DatasheetVersion: SLVS237C; PackageVersion: 4040047-3/M; PackageReference: D8; PackageDescription: 8-Pin Plastic Small Outline, Body 4.9 x 3.9 mm, Pitch 1.27 mm; Supplier 1: Digi-Key; Supplier Part Number 1: TPS76633DRG4-ND; Supplier 2: Newark; Supplier Part Number 2: 24K6164; Supplier 3: Mouser; Supplier Part Number 3: 595-TPS76633DRG4; Eco-Plan: Green (RoHS & no Sb/Br); Vout Adj(Max)(V): 3.3; Vout Adj(Min)(V): 3.3; Mounting Technology: Surface Mount; Code_JEDEC: MS-012; ComponentLink1Description: Manufacturer URL; ComponentLink1URL: http://www.ti.com/; ComponentLink2Description: Datasheet; ComponentLink2URL: http://www.ti.com/general/docs/lit/getliterature.tsp?genericPartNumber=TPS76633&fileType=pdf; ComponentLink3Description: Package Specification; ComponentLink3URL: http://www.ti.com/litv/pdf/msoi002j
footprint TI-D8_N (SOIC, 8-Leads, Body 4.9x3.9mm, Pitch 1.27mm, IPC Medium Density)
footprint TI-D8_L (SOIC, 8-Leads, Body 4.9x3.9mm, Pitch 1.27mm, IPC High Density)
footprint TI-D8_M (SOIC, 8-Leads, Body 4.9x3.9mm, Pitch 1.27mm, IPC Low Density)
pins: 1 NC "No connect", 2 PG (hiz) "PG output", 3 GND (power) "Regulator ground", 4 ~{EN} (in) "Enable input", 5 IN (power) "Input voltage", 6 IN (power) "Input voltage", 7 OUT (power) "Regulated output voltage", 8 OUT (power) "Regulated output voltage"

## TPS76650D
designator U?
Single Output LDO, 200 mA, Fixed 5 V Output, 2.7 to 10 V Input, with Low IQ, 8-pin SOIC (D), -40 to 125 degC, Green (RoHS & no Sb/Br); Manufacturer: Texas Instruments; PartNumber: TPS76650D; Fixed Output Options(V): 5; Iout(Max)(A): 0.25; Iq(Typ)(mA): 0.03; Power Good: TRUE; Rating: Catalog; SubFamily: Single Channel LDO; Vdo(Typ)(mV): 140; Vin(Max)(V): 10; Vin(Min)(V): 2.7; DatasheetVersion: SLVS237C; PackageVersion: 4040047-3/M; PackageReference: D8; PackageDescription: 8-Pin Plastic Small Outline, Body 4.9 x 3.9 mm, Pitch 1.27 mm; Supplier 1: Digi-Key; Supplier Part Number 1: 296-2730-5-ND; Supplier 2: Farnell; Supplier Part Number 2: 8461430; Supplier 3: Newark; Supplier Part Number 3: 77C1062; Supplier 4: Mouser; Supplier Part Number 4: 595-TPS76650D; Eco-Plan: Green (RoHS & no Sb/Br); Vout Adj(Max)(V): 5; Vout Adj(Min)(V): 5; Mounting Technology: Surface Mount; Code_JEDEC: MS-012; ComponentLink1Description: Manufacturer URL; ComponentLink1URL: http://www.ti.com/; ComponentLink2Description: Datasheet; ComponentLink2URL: http://www.ti.com/general/docs/lit/getliterature.tsp?genericPartNumber=TPS76650&fileType=pdf; ComponentLink3Description: Package Specification; ComponentLink3URL: http://www.ti.com/litv/pdf/msoi002j
footprint TI-D8_N (SOIC, 8-Leads, Body 4.9x3.9mm, Pitch 1.27mm, IPC Medium Density)
footprint TI-D8_L (SOIC, 8-Leads, Body 4.9x3.9mm, Pitch 1.27mm, IPC High Density)
footprint TI-D8_M (SOIC, 8-Leads, Body 4.9x3.9mm, Pitch 1.27mm, IPC Low Density)
pins: 1 NC "No connect", 2 PG (hiz) "PG output", 3 GND (power) "Regulator ground", 4 ~{EN} (in) "Enable input", 5 IN (power) "Input voltage", 6 IN (power) "Input voltage", 7 OUT (power) "Regulated output voltage", 8 OUT (power) "Regulated output voltage"

## TPS76650DG4
designator U?
Single Output LDO, 200 mA, Fixed 5 V Output, 2.7 to 10 V Input, with Low IQ, 8-pin SOIC (D), -40 to 125 degC, Green (RoHS & no Sb/Br); Manufacturer: Texas Instruments; PartNumber: TPS76650DG4; Fixed Output Options(V): 5; Iout(Max)(A): 0.25; Iq(Typ)(mA): 0.03; Power Good: TRUE; Rating: Catalog; SubFamily: Single Channel LDO; Vdo(Typ)(mV): 140; Vin(Max)(V): 10; Vin(Min)(V): 2.7; DatasheetVersion: SLVS237C; PackageVersion: 4040047-3/M; PackageReference: D8; PackageDescription: 8-Pin Plastic Small Outline, Body 4.9 x 3.9 mm, Pitch 1.27 mm; Supplier 1: Digi-Key; Supplier Part Number 1: TPS76650DG4-ND; Supplier 2: Newark; Supplier Part Number 2: 33K7750; Supplier 3: Mouser; Supplier Part Number 3: 595-TPS76650DG4; Eco-Plan: Green (RoHS & no Sb/Br); Vout Adj(Max)(V): 5; Vout Adj(Min)(V): 5; Mounting Technology: Surface Mount; Code_JEDEC: MS-012; ComponentLink1Description: Manufacturer URL; ComponentLink1URL: http://www.ti.com/; ComponentLink2Description: Datasheet; ComponentLink2URL: http://www.ti.com/general/docs/lit/getliterature.tsp?genericPartNumber=TPS76650&fileType=pdf; ComponentLink3Description: Package Specification; ComponentLink3URL: http://www.ti.com/litv/pdf/msoi002j
footprint TI-D8_N (SOIC, 8-Leads, Body 4.9x3.9mm, Pitch 1.27mm, IPC Medium Density)
footprint TI-D8_L (SOIC, 8-Leads, Body 4.9x3.9mm, Pitch 1.27mm, IPC High Density)
footprint TI-D8_M (SOIC, 8-Leads, Body 4.9x3.9mm, Pitch 1.27mm, IPC Low Density)
pins: 1 NC "No connect", 2 PG (hiz) "PG output", 3 GND (power) "Regulator ground", 4 ~{EN} (in) "Enable input", 5 IN (power) "Input voltage", 6 IN (power) "Input voltage", 7 OUT (power) "Regulated output voltage", 8 OUT (power) "Regulated output voltage"

## TPS76650DR
designator U?
Single Output LDO, 200 mA, Fixed 5 V Output, 2.7 to 10 V Input, with Low IQ, 8-pin SOIC (D), -40 to 125 degC, Green (RoHS & no Sb/Br); Manufacturer: Texas Instruments; PartNumber: TPS76650DR; Fixed Output Options(V): 5; Iout(Max)(A): 0.25; Iq(Typ)(mA): 0.03; Power Good: TRUE; Rating: Catalog; SubFamily: Single Channel LDO; Vdo(Typ)(mV): 140; Vin(Max)(V): 10; Vin(Min)(V): 2.7; DatasheetVersion: SLVS237C; PackageVersion: 4040047-3/M; PackageReference: D8; PackageDescription: 8-Pin Plastic Small Outline, Body 4.9 x 3.9 mm, Pitch 1.27 mm; Supplier 1: Digi-Key; Supplier Part Number 1: 296-27078-2-ND; Supplier 2: Digi-Key; Supplier Part Number 2: 296-27078-1-ND; Supplier 3: Digi-Key; Supplier Part Number 3: 296-27078-6-ND; Supplier 4: Newark; Supplier Part Number 4: 77C1063; Supplier 5: Mouser; Supplier Part Number 5: 595-TPS76650DR; Eco-Plan: Green (RoHS & no Sb/Br); Vout Adj(Max)(V): 5; Vout Adj(Min)(V): 5; Mounting Technology: Surface Mount; Code_JEDEC: MS-012; ComponentLink1Description: Manufacturer URL; ComponentLink1URL: http://www.ti.com/; ComponentLink2Description: Datasheet; ComponentLink2URL: http://www.ti.com/general/docs/lit/getliterature.tsp?genericPartNumber=TPS76650&fileType=pdf; ComponentLink3Description: Package Specification; ComponentLink3URL: http://www.ti.com/litv/pdf/msoi002j
footprint TI-D8_N (SOIC, 8-Leads, Body 4.9x3.9mm, Pitch 1.27mm, IPC Medium Density)
footprint TI-D8_L (SOIC, 8-Leads, Body 4.9x3.9mm, Pitch 1.27mm, IPC High Density)
footprint TI-D8_M (SOIC, 8-Leads, Body 4.9x3.9mm, Pitch 1.27mm, IPC Low Density)
pins: 1 NC "No connect", 2 PG (hiz) "PG output", 3 GND (power) "Regulator ground", 4 ~{EN} (in) "Enable input", 5 IN (power) "Input voltage", 6 IN (power) "Input voltage", 7 OUT (power) "Regulated output voltage", 8 OUT (power) "Regulated output voltage"

## TPS76650DRG4
designator U?
Single Output LDO, 200 mA, Fixed 5 V Output, 2.7 to 10 V Input, with Low IQ, 8-pin SOIC (D), -40 to 125 degC, Green (RoHS & no Sb/Br); Manufacturer: Texas Instruments; PartNumber: TPS76650DRG4; Fixed Output Options(V): 5; Iout(Max)(A): 0.25; Iq(Typ)(mA): 0.03; Power Good: TRUE; Rating: Catalog; SubFamily: Single Channel LDO; Vdo(Typ)(mV): 140; Vin(Max)(V): 10; Vin(Min)(V): 2.7; DatasheetVersion: SLVS237C; PackageVersion: 4040047-3/M; PackageReference: D8; PackageDescription: 8-Pin Plastic Small Outline, Body 4.9 x 3.9 mm, Pitch 1.27 mm; Supplier 1: Digi-Key; Supplier Part Number 1: TPS76650DRG4-ND; Supplier 2: Newark; Supplier Part Number 2: 33K7751; Supplier 3: Mouser; Supplier Part Number 3: 595-TPS76650DRG4; Eco-Plan: Green (RoHS & no Sb/Br); Vout Adj(Max)(V): 5; Vout Adj(Min)(V): 5; Mounting Technology: Surface Mount; Code_JEDEC: MS-012; ComponentLink1Description: Manufacturer URL; ComponentLink1URL: http://www.ti.com/; ComponentLink2Description: Datasheet; ComponentLink2URL: http://www.ti.com/general/docs/lit/getliterature.tsp?genericPartNumber=TPS76650&fileType=pdf; ComponentLink3Description: Package Specification; ComponentLink3URL: http://www.ti.com/litv/pdf/msoi002j
footprint TI-D8_N (SOIC, 8-Leads, Body 4.9x3.9mm, Pitch 1.27mm, IPC Medium Density)
footprint TI-D8_L (SOIC, 8-Leads, Body 4.9x3.9mm, Pitch 1.27mm, IPC High Density)
footprint TI-D8_M (SOIC, 8-Leads, Body 4.9x3.9mm, Pitch 1.27mm, IPC Low Density)
pins: 1 NC "No connect", 2 PG (hiz) "PG output", 3 GND (power) "Regulator ground", 4 ~{EN} (in) "Enable input", 5 IN (power) "Input voltage", 6 IN (power) "Input voltage", 7 OUT (power) "Regulated output voltage", 8 OUT (power) "Regulated output voltage"

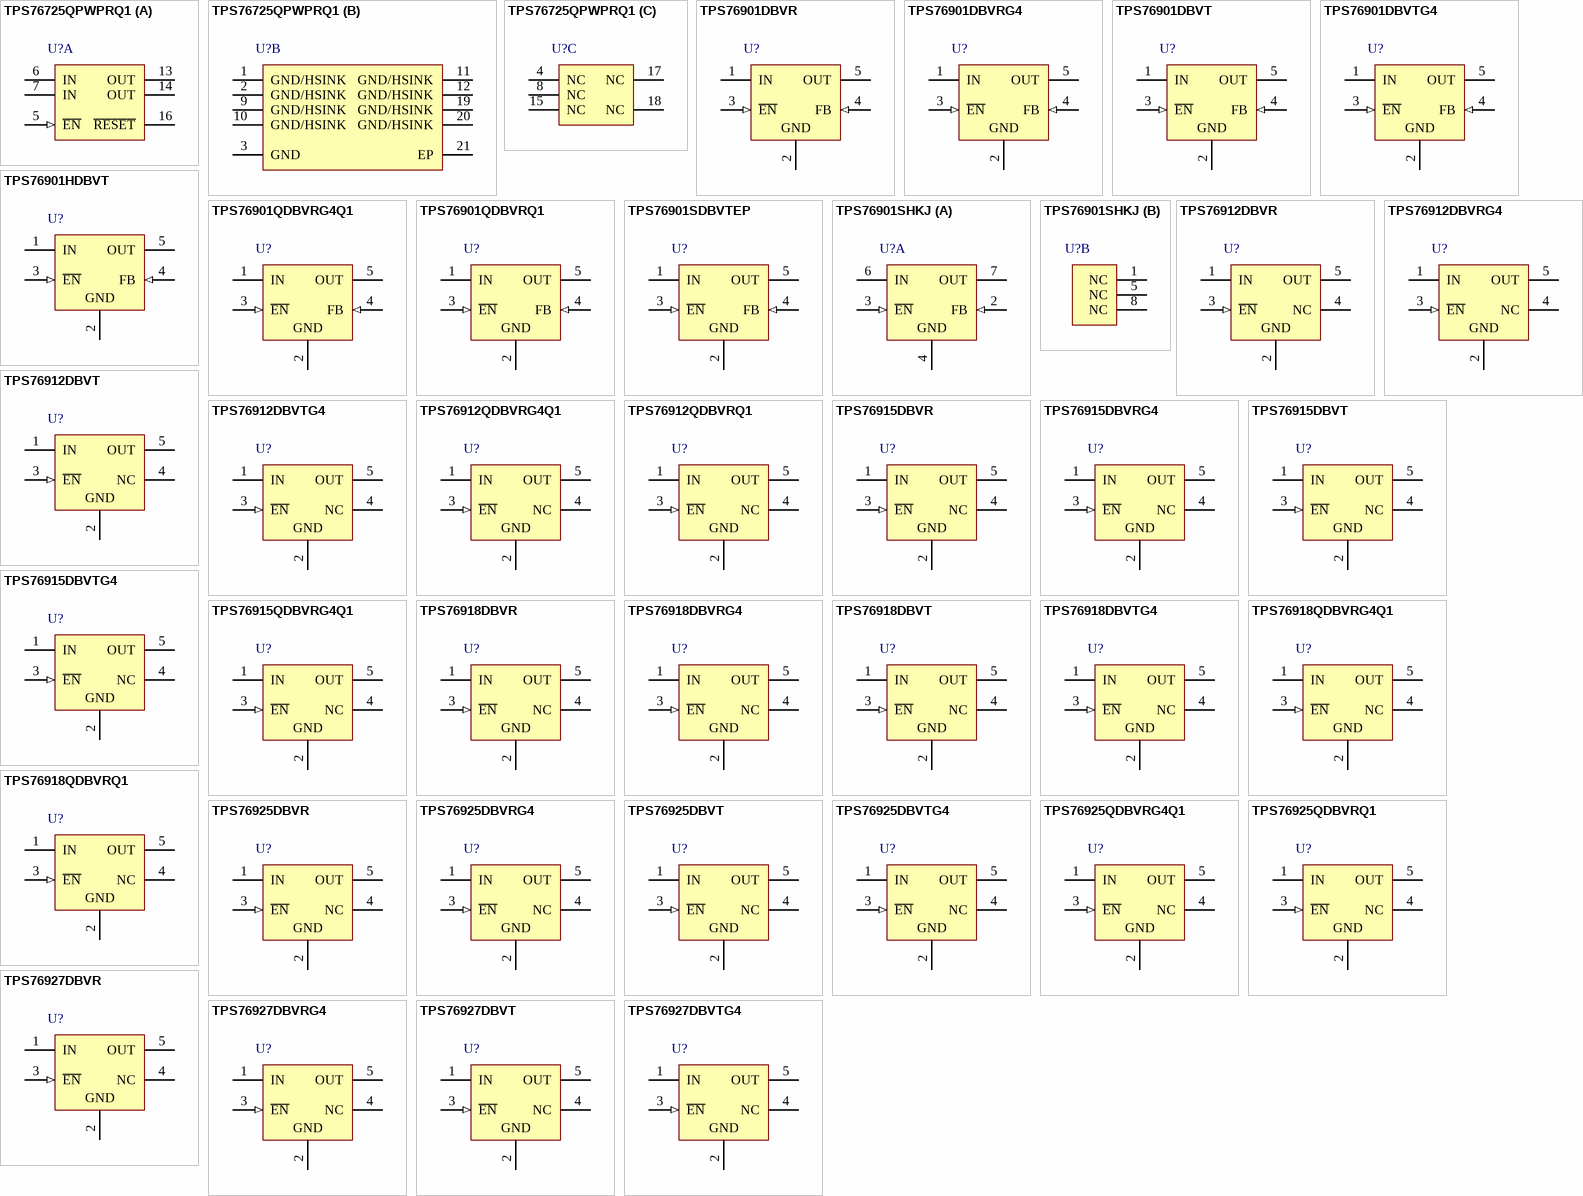
[diagram p25: symbols TPS76725QPWPRQ1 to TPS76927DBVTG4]

## TPS76725QPWPRQ1
designator U?
Single Output Automotive LDO, 1 A, Fixed 2.5 V Output, 2.7 to 5.5 V Input, 20-pin HTSSOP (PWP), -40 to 125 degC; Manufacturer: Texas Instruments; PartNumber: TPS76725QPWPRQ1; Accuracy(%): 3; Fixed Output Options(V): 2.5; Iout(Max)(A): 0.1; Iq(Typ)(mA): 0.57; SubFamily: Single Channel LDO; Vdo(Typ)(mV): 150; Vin(Max)(V): 5.5; Vin(Min)(V): 1.8; DatasheetVersion: SGLS009B; PackageVersion: 4073225-4/I; PackageReference: PWP20-2980X2000TP; PackageDescription: 20-Pin Plastic Small Outline, Body 4.4 x 6.5 mm, Pitch 0.65 mm; Supplier 1: Digi-Key; Supplier Part Number 1: TPS76725QPWPRQ1-ND; Supplier 2: Mouser; Supplier Part Number 2: 595-TPS76725QPWPRQ1; Vout Adj(Max)(V): 2.5; Vout Adj(Min)(V): 2.5; Mounting Technology: Surface Mount; Code_JEDEC: MO-153; ComponentLink1Description: Manufacturer URL; ComponentLink1URL: http://www.ti.com/; ComponentLink2Description: Datasheet; ComponentLink2URL: http://www.ti.com/general/docs/lit/getliterature.tsp?genericPartNumber=TPS76725-Q1&fileType=pdf; ComponentLink3Description: Package Specification; ComponentLink3URL: http://www.ti.com/litv/pdf/mhts001g
footprint TI-PWP20-2980X2000TP_N (SOP, 20-Leads, Body 6.5x4.4mm, Pitch 0.65mm, Thermal Pad 2.975x2 mm, IPC Medium Density)
footprint TI-PWP20-2980X2000TP_L (SOP, 20-Leads, Body 6.5x4.4mm, Pitch 0.65mm, Thermal Pad 2.975x2 mm, IPC High Density)
footprint TI-PWP20-2980X2000TP_M (SOP, 20-Leads, Body 6.5x4.4mm, Pitch 0.65mm, Thermal Pad 2.975x2 mm, IPC Low Density)
part A pins: 5 ~{EN} (in) "Enable", 6 IN (power) "Input voltage", 7 IN (power) "Input voltage", 13 OUT (power) "Regulated output voltage", 14 OUT (power) "Regulated output voltage", 16 ~{RESET} (hiz) "Reset"
part B pins: 1 GND/HSINK (power) "Ground/heatsink", 2 GND/HSINK (power) "Ground/heatsink", 3 GND (power) "Regulator ground", 9 GND/HSINK (power) "Ground/heatsink", 10 GND/HSINK (power) "Ground/heatsink", 11 GND/HSINK (power) "Ground/heatsink", 12 GND/HSINK (power) "Ground/heatsink", 19 GND/HSINK (power) "Ground/heatsink", 20 GND/HSINK (power) "Ground/heatsink", 21 EP "Exposed Thermal Pad"
part C pins: 4 NC "No connect", 8 NC "No connect", 15 NC "No connect", 17 NC "No connect", 18 NC "No connect"

## TPS76901DBVR
designator U?
Single Output LDO, 100 mA, Adjustable 1.2 to 5.5 V Output, 2.7 to 10 V Input, with Low IQ, 5-pin SOT-23 (DBV), -40 to 125 degC, Green (RoHS & no Sb/Br); Manufacturer: Texas Instruments; PartNumber: TPS76901DBVR; Accuracy(%): 3; Iout(Max)(A): 0.1; Iq(Typ)(mA): 0.02; Rating: Catalog; SubFamily: Single Channel LDO; Vdo(Typ)(mV): 71; Vin(Max)(V): 10; Vin(Min)(V): 2.7; Vout Adj(Max)(V): 5.5; Vout Adj(Min)(V): 1.2; DatasheetVersion: SLVS203E; PackageVersion: 4073253-4/K; PackageReference: DBV5; PackageDescription: 5-Pin Plastic Small Outline, Body 1.60 × 2.90 mm, Pitch 0.95 mm; Supplier 1: Digi-Key; Supplier Part Number 1: 296-11029-2-ND; Supplier 2: Digi-Key; Supplier Part Number 2: 296-11029-1-ND; Supplier 3: Digi-Key; Supplier Part Number 3: 296-11029-6-ND; Supplier 4: Farnell; Supplier Part Number 4: 2112624; Supplier 5: Newark; Supplier Part Number 5: 77C1141; Supplier 6: Mouser; Supplier Part Number 6: 595-TPS76901DBVR; Eco-Plan: Green (RoHS & no Sb/Br); Mounting Technology: Surface Mount; Code_JEDEC: MO-178; ComponentLink1Description: Manufacturer URL; ComponentLink1URL: http://www.ti.com/; ComponentLink2Description: Datasheet; ComponentLink2URL: http://www.ti.com/general/docs/lit/getliterature.tsp?genericPartNumber=TPS76901&fileType=pdf; ComponentLink3Description: Package Specification; ComponentLink3URL: http://www.ti.com/litv/pdf/mpds018i; ComponentLink4Description: URL Link1; ComponentLink4URL: Samples URL:http://www.ti.com/product/tps76901#samples
footprint TI-DBV5_N (SOT23, 5-Leads, Body 2.9x1.6mm, Pitch 0.95mm, IPC Medium Density)
footprint TI-DBV5_L (SOT23, 5-Leads, Body 2.9x1.6mm, Pitch 0.95mm, IPC High Density)
footprint TI-DBV5_M (SOT23, 5-Leads, Body 2.9x1.6mm, Pitch 0.95mm, IPC Low Density)
pins: 1 IN (power) "Input to the device", 2 GND (power) "Ground pin", 3 ~{EN} (in) "Enable input", 4 FB (in) "Feedback voltage", 5 OUT (power) "Regulated output voltage"